# EAGLE library part BC857BS (library joakim)
PNP double transistor in an SC-88; SOT363 plastic package. AAL Eindhoven MK
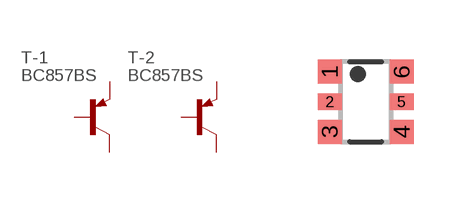
[diagram p40: symbol with the pads of SOT363J; footprint SOT363J]

Designator prefix T; gates -1=PNP-1 -2=PNP-1

## BC857BS  [SOT363J]
1  -1:E  pas
2  -1:B  pas
3  -2:C  pas
4  -2:E  pas
5  -2:B  pas
6  -1:C  pas

## Footprint SOT363J (pad centres in mm)
SOT363 Plastic surface-mounted package; 6 leads JEDEC: -- IEC: -- JEITA: SC-88
smd 0.6 x 0.6: 1 -0.9,0.75; 3 -0.9,-0.75; 4 0.9,-0.75; 6 0.9,0.75
smd 0.6 x 0.4: 2 -0.9,0; 5 0.9,0